# EAGLE library part MAX7300 (library DMFlib)
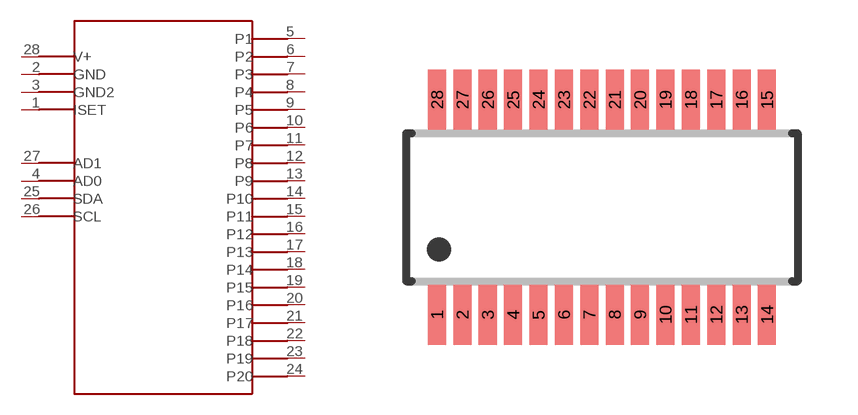
[diagram p1: symbol with the pads of QSOP24; footprint QSOP24]

Designator prefix -

## MAX7300  [QSOP24]
1  ISET
2  GND
3  GND2
4  AD0
5  P1
6  P2
7  P3
8  P4
9  P5
10  P6
11  P7
12  P8
13  P9
14  P10
15  P11
16  P12
17  P13
18  P14
19  P15
20  P16
21  P17
22  P18
23  P19
24  P20
25  SDA
26  SCL
27  AD1
28  V+

## Footprint QSOP24 (pad centres in mm)
QSOP 24 Source: http://datasheets.maxim-ic.com/en/ds/MAX7313.pdf
smd 0.45 x 1.5: 1 -3.493,-2.69; 2 -2.857,-2.69; 3 -2.223,-2.69; 4 -1.587,-2.69; 5 -0.953,-2.69; 6 -0.318,-2.69; 7 0.318,-2.69; 8 0.953,-2.69; 9 1.587,-2.69; 10 2.223,-2.69; 11 2.857,-2.69; 12 3.493,-2.69; 13 4.128,-2.69; 14 4.763,-2.69; 15 4.763,2.69; 16 4.128,2.69; 17 3.493,2.69; 18 2.857,2.69; 19 2.223,2.69; 20 1.587,2.69; 21 0.953,2.69; 22 0.318,2.69; 23 -0.318,2.69; 24 -0.953,2.69; 25 -1.587,2.69; 26 -2.223,2.69; 27 -2.857,2.69; 28 -3.493,2.69